# Altium schematic symbol library yu0316-NSC_LDO.SchLib: 2590 symbols (part 29 of 64)
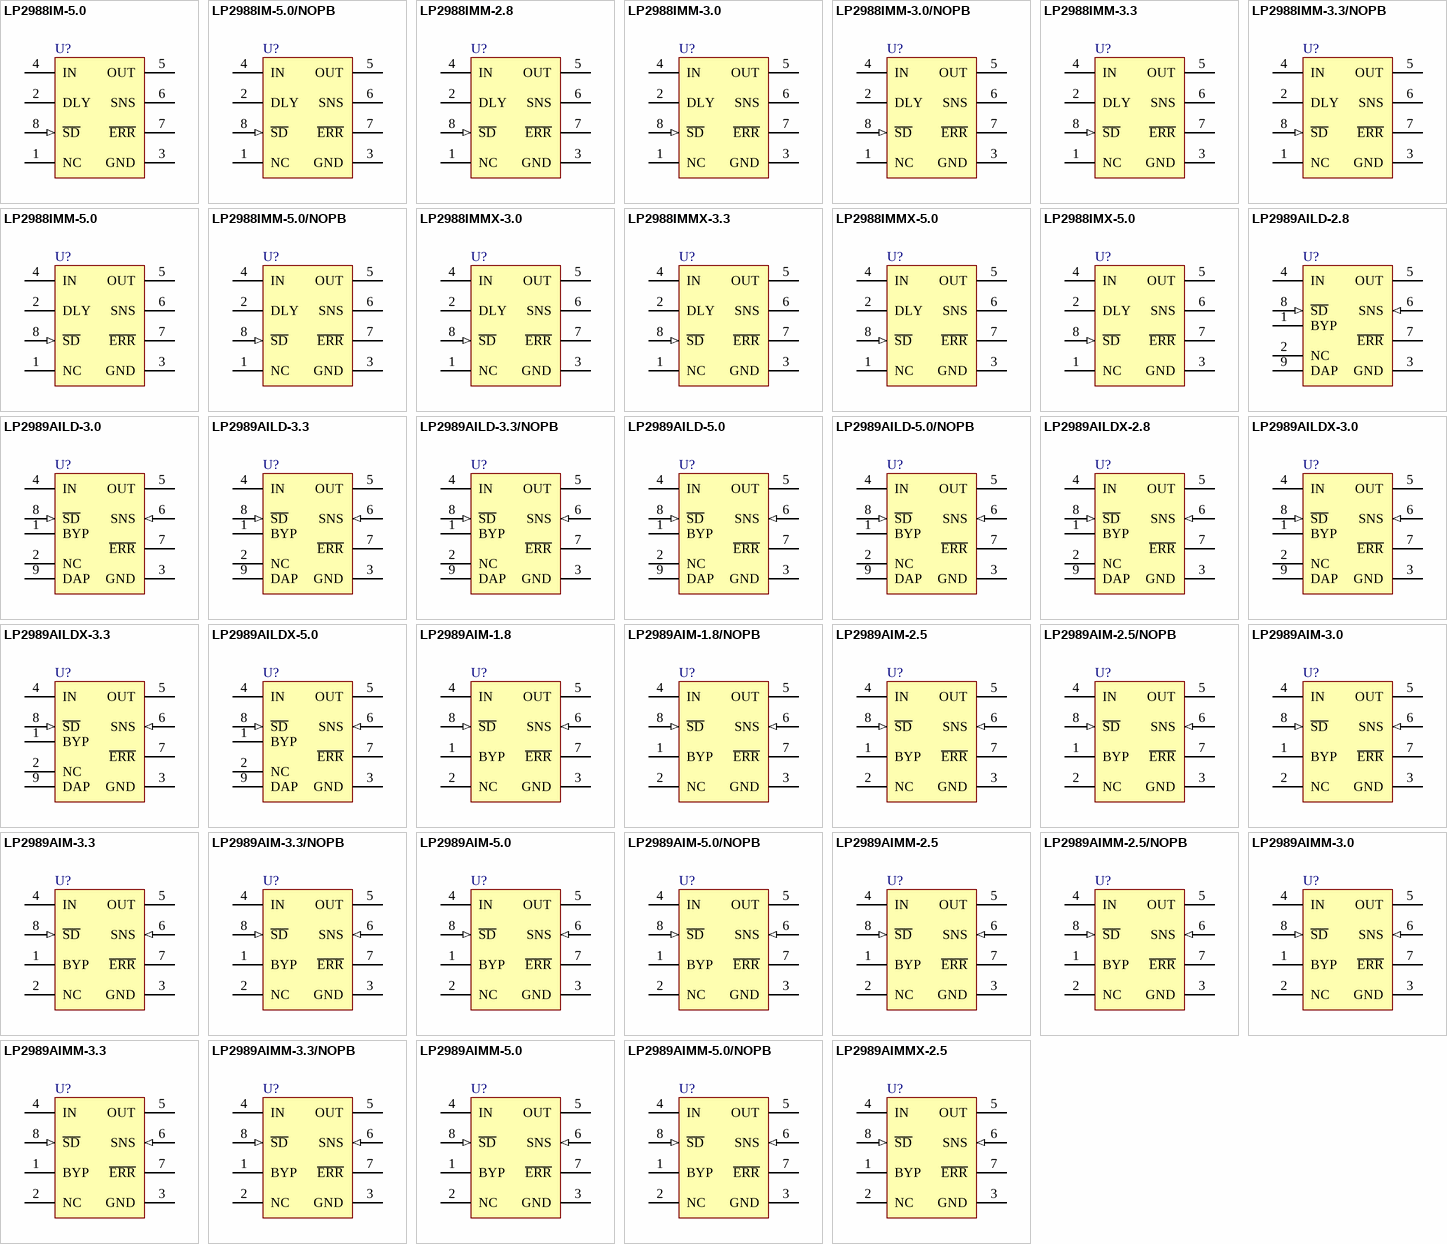
[diagram p93: symbols LP2988IM-5.0 to LP2989AIMMX-2.5]

## LP2989AILD-3.0
designator U?
Micropower/Low Noise, 500 mA Ultra Low-Dropout Regulator, 8-pin LLP; PartNumber: LP2989AILD-3.0; Manufacturer: National Semiconductor; PackageTopMarking: NS*UZXYTT*L01HA; PowerWise: N; CompType: LDO IC; Published: 4-Dec-2008; DatasheetVersion: Feb-2005; PackageVersion: revB, Jun-2003; PackageReference: LDC08A; Publisher: Altium Limited; PackageDescription: LLP, Plastic, Dual, 4 x 4 x 0.75mm Body, 8 Lead, 0.8mm Pitch; RoHS: N; PinCount: 8; ComponentLink1Description: LP2989 Datasheet; ComponentLink1URL: http://www.national.com/ds/LP/LP2989.pdf; ComponentLink2Description: LP2989 Web Page; ComponentLink2URL: http://www.national.com/pf/LP/LP2989.html; ComponentLink3Description: LDC08A Package Page; ComponentLink3URL: http://www.national.com/packaging/folders/ldc08a.html
footprint LDC08A (PSON, 8-Leads, Body 4x4mm, Pitch 0.8mm, NSC Recommended)
pins: 1 BYP, 2 NC, 3 GND (power), 4 IN (power), 5 OUT (power), 6 SNS (in), 7 ~{ERR} (oc), 8 ~{SD} (in), 9 DAP (power)

## LP2989AILD-3.3
designator U?
Micropower/Low Noise, 500 mA Ultra Low-Dropout Regulator, 8-pin LLP; PartNumber: LP2989AILD-3.3; Manufacturer: National Semiconductor; PackageTopMarking: NS*UZXYTT*L01JA; PowerWise: N; CompType: LDO IC; Published: 4-Dec-2008; DatasheetVersion: Feb-2005; PackageVersion: revB, Jun-2003; PackageReference: LDC08A; Publisher: Altium Limited; PackageDescription: LLP, Plastic, Dual, 4 x 4 x 0.75mm Body, 8 Lead, 0.8mm Pitch; RoHS: N; PinCount: 8; ComponentLink1Description: LP2989 Datasheet; ComponentLink1URL: http://www.national.com/ds/LP/LP2989.pdf; ComponentLink2Description: LP2989 Web Page; ComponentLink2URL: http://www.national.com/pf/LP/LP2989.html; ComponentLink3Description: LDC08A Package Page; ComponentLink3URL: http://www.national.com/packaging/folders/ldc08a.html
footprint LDC08A (PSON, 8-Leads, Body 4x4mm, Pitch 0.8mm, NSC Recommended)
pins: 1 BYP, 2 NC, 3 GND (power), 4 IN (power), 5 OUT (power), 6 SNS (in), 7 ~{ERR} (oc), 8 ~{SD} (in), 9 DAP (power)

## LP2989AILD-3.3/NOPB
designator U?
Micropower/Low Noise, 500 mA Ultra Low-Dropout Regulator, 8-pin LLP, Pb-Free; PartNumber: LP2989AILD-3.3/NOPB; Manufacturer: National Semiconductor; PackageTopMarking: NS*UZXYTT*L01JA; PowerWise: N; CompType: LDO IC; Published: 1-Mar-2010; DatasheetVersion: Feb-2005; PackageVersion: revB, Jun-2003; PackageReference: LDC08A; Publisher: Altium Limited; PackageDescription: LLP, Plastic, Dual, 4 x 4 x 0.75mm Body, 8 Lead, 0.8mm Pitch; Supplier 1: Digi-Key; Supplier Part Number 1: LP2989AILD-3.3TR-ND; Supplier 2: Digi-Key; Supplier Part Number 2: LP2989AILD-3.3CT-ND; Supplier 3: Digi-Key; Supplier Part Number 3: LP2989AILD-3.3DKR-ND; Supplier 4: Farnell; Supplier Part Number 4: 1685519; RoHS: Y; PinCount: 8; ComponentLink1Description: LP2989 Datasheet; ComponentLink1URL: http://www.national.com/ds/LP/LP2989.pdf; ComponentLink2Description: LP2989 Web Page; ComponentLink2URL: http://www.national.com/pf/LP/LP2989.html; ComponentLink3Description: LDC08A Package Page; ComponentLink3URL: http://www.national.com/packaging/folders/ldc08a.html
footprint LDC08A (PSON, 8-Leads, Body 4x4mm, Pitch 0.8mm, NSC Recommended)
pins: 1 BYP, 2 NC, 3 GND (power), 4 IN (power), 5 OUT (power), 6 SNS (in), 7 ~{ERR} (oc), 8 ~{SD} (in), 9 DAP (power)

## LP2989AILD-5.0
designator U?
Micropower/Low Noise, 500 mA Ultra Low-Dropout Regulator, 8-pin LLP; PartNumber: LP2989AILD-5.0; Manufacturer: National Semiconductor; PackageTopMarking: NS*UZXYTT*L01KA; PowerWise: N; CompType: LDO IC; Published: 4-Dec-2008; DatasheetVersion: Feb-2005; PackageVersion: revB, Jun-2003; PackageReference: LDC08A; Publisher: Altium Limited; PackageDescription: LLP, Plastic, Dual, 4 x 4 x 0.75mm Body, 8 Lead, 0.8mm Pitch; RoHS: N; PinCount: 8; ComponentLink1Description: LP2989 Datasheet; ComponentLink1URL: http://www.national.com/ds/LP/LP2989.pdf; ComponentLink2Description: LP2989 Web Page; ComponentLink2URL: http://www.national.com/pf/LP/LP2989.html; ComponentLink3Description: LDC08A Package Page; ComponentLink3URL: http://www.national.com/packaging/folders/ldc08a.html
footprint LDC08A (PSON, 8-Leads, Body 4x4mm, Pitch 0.8mm, NSC Recommended)
pins: 1 BYP, 2 NC, 3 GND (power), 4 IN (power), 5 OUT (power), 6 SNS (in), 7 ~{ERR} (oc), 8 ~{SD} (in), 9 DAP (power)

## LP2989AILD-5.0/NOPB
designator U?
Micropower/Low Noise, 500 mA Ultra Low-Dropout Regulator, 8-pin LLP, Pb-Free; PartNumber: LP2989AILD-5.0/NOPB; Manufacturer: National Semiconductor; PackageTopMarking: NS*UZXYTT*L01KA; PowerWise: N; CompType: LDO IC; Published: 1-Mar-2010; DatasheetVersion: Feb-2005; PackageVersion: revB, Jun-2003; PackageReference: LDC08A; Publisher: Altium Limited; PackageDescription: LLP, Plastic, Dual, 4 x 4 x 0.75mm Body, 8 Lead, 0.8mm Pitch; Supplier 1: Digi-Key; Supplier Part Number 1: LP2989AILD-5.0TR-ND; Supplier 2: Digi-Key; Supplier Part Number 2: LP2989AILD-5.0CT-ND; Supplier 3: Digi-Key; Supplier Part Number 3: LP2989AILD-5.0DKR-ND; RoHS: Y; PinCount: 8; ComponentLink1Description: LP2989 Datasheet; ComponentLink1URL: http://www.national.com/ds/LP/LP2989.pdf; ComponentLink2Description: LP2989 Web Page; ComponentLink2URL: http://www.national.com/pf/LP/LP2989.html; ComponentLink3Description: LDC08A Package Page; ComponentLink3URL: http://www.national.com/packaging/folders/ldc08a.html
footprint LDC08A (PSON, 8-Leads, Body 4x4mm, Pitch 0.8mm, NSC Recommended)
pins: 1 BYP, 2 NC, 3 GND (power), 4 IN (power), 5 OUT (power), 6 SNS (in), 7 ~{ERR} (oc), 8 ~{SD} (in), 9 DAP (power)

## LP2989AILDX-2.8
designator U?
Micropower/Low Noise, 500 mA Ultra Low-Dropout Regulator, 8-pin LLP; PartNumber: LP2989AILDX-2.8; Manufacturer: National Semiconductor; PackageTopMarking: NS*UZXYTT*L000A; PowerWise: N; CompType: LDO IC; Published: 1-Mar-2010; DatasheetVersion: Feb-2005; PackageVersion: revB, Jun-2003; PackageReference: LDC08A; Publisher: Altium Limited; PackageDescription: LLP, Plastic, Dual, 4 x 4 x 0.75mm Body, 8 Lead, 0.8mm Pitch; RoHS: N; PinCount: 8; ComponentLink1Description: LP2989 Datasheet; ComponentLink1URL: http://www.national.com/ds/LP/LP2989.pdf; ComponentLink2Description: LP2989 Web Page; ComponentLink2URL: http://www.national.com/pf/LP/LP2989.html; ComponentLink3Description: LDC08A Package Page; ComponentLink3URL: http://www.national.com/packaging/folders/ldc08a.html
footprint LDC08A (PSON, 8-Leads, Body 4x4mm, Pitch 0.8mm, NSC Recommended)
pins: 1 BYP, 2 NC, 3 GND (power), 4 IN (power), 5 OUT (power), 6 SNS (in), 7 ~{ERR} (oc), 8 ~{SD} (in), 9 DAP (power)

## LP2989AILDX-3.0
designator U?
Micropower/Low Noise, 500 mA Ultra Low-Dropout Regulator, 8-pin LLP; PartNumber: LP2989AILDX-3.0; Manufacturer: National Semiconductor; PackageTopMarking: NS*UZXYTT*L01HA; PowerWise: N; CompType: LDO IC; Published: 1-Mar-2010; DatasheetVersion: Feb-2005; PackageVersion: revB, Jun-2003; PackageReference: LDC08A; Publisher: Altium Limited; PackageDescription: LLP, Plastic, Dual, 4 x 4 x 0.75mm Body, 8 Lead, 0.8mm Pitch; Supplier 1: Digi-Key; Supplier Part Number 1: LP2989AILDX-3.0-ND; RoHS: N; PinCount: 8; ComponentLink1Description: LP2989 Datasheet; ComponentLink1URL: http://www.national.com/ds/LP/LP2989.pdf; ComponentLink2Description: LP2989 Web Page; ComponentLink2URL: http://www.national.com/pf/LP/LP2989.html; ComponentLink3Description: LDC08A Package Page; ComponentLink3URL: http://www.national.com/packaging/folders/ldc08a.html
footprint LDC08A (PSON, 8-Leads, Body 4x4mm, Pitch 0.8mm, NSC Recommended)
pins: 1 BYP, 2 NC, 3 GND (power), 4 IN (power), 5 OUT (power), 6 SNS (in), 7 ~{ERR} (oc), 8 ~{SD} (in), 9 DAP (power)

## LP2989AILDX-3.3
designator U?
Micropower/Low Noise, 500 mA Ultra Low-Dropout Regulator, 8-pin LLP; PartNumber: LP2989AILDX-3.3; Manufacturer: National Semiconductor; PackageTopMarking: NS*UZXYTT*L01JA; PowerWise: N; CompType: LDO IC; Published: 1-Mar-2010; DatasheetVersion: Feb-2005; PackageVersion: revB, Jun-2003; PackageReference: LDC08A; Publisher: Altium Limited; PackageDescription: LLP, Plastic, Dual, 4 x 4 x 0.75mm Body, 8 Lead, 0.8mm Pitch; RoHS: N; PinCount: 8; ComponentLink1Description: LP2989 Datasheet; ComponentLink1URL: http://www.national.com/ds/LP/LP2989.pdf; ComponentLink2Description: LP2989 Web Page; ComponentLink2URL: http://www.national.com/pf/LP/LP2989.html; ComponentLink3Description: LDC08A Package Page; ComponentLink3URL: http://www.national.com/packaging/folders/ldc08a.html
footprint LDC08A (PSON, 8-Leads, Body 4x4mm, Pitch 0.8mm, NSC Recommended)
pins: 1 BYP, 2 NC, 3 GND (power), 4 IN (power), 5 OUT (power), 6 SNS (in), 7 ~{ERR} (oc), 8 ~{SD} (in), 9 DAP (power)

## LP2989AILDX-5.0
designator U?
Micropower/Low Noise, 500 mA Ultra Low-Dropout Regulator, 8-pin LLP; PartNumber: LP2989AILDX-5.0; Manufacturer: National Semiconductor; PackageTopMarking: NS*UZXYTT*L01KA; PowerWise: N; CompType: LDO IC; Published: 1-Mar-2010; DatasheetVersion: Feb-2005; PackageVersion: revB, Jun-2003; PackageReference: LDC08A; Publisher: Altium Limited; PackageDescription: LLP, Plastic, Dual, 4 x 4 x 0.75mm Body, 8 Lead, 0.8mm Pitch; Supplier 1: Digi-Key; Supplier Part Number 1: LP2989AILDX-5.0-ND; RoHS: N; PinCount: 8; ComponentLink1Description: LP2989 Datasheet; ComponentLink1URL: http://www.national.com/ds/LP/LP2989.pdf; ComponentLink2Description: LP2989 Web Page; ComponentLink2URL: http://www.national.com/pf/LP/LP2989.html; ComponentLink3Description: LDC08A Package Page; ComponentLink3URL: http://www.national.com/packaging/folders/ldc08a.html
footprint LDC08A (PSON, 8-Leads, Body 4x4mm, Pitch 0.8mm, NSC Recommended)
pins: 1 BYP, 2 NC, 3 GND (power), 4 IN (power), 5 OUT (power), 6 SNS (in), 7 ~{ERR} (oc), 8 ~{SD} (in), 9 DAP (power)

## LP2989AIM-1.8
designator U?
Micropower/Low Noise, 500 mA Ultra Low-Dropout Regulator, 8-pin Narrow SOIC; PartNumber: LP2989AIM-1.8; Manufacturer: National Semiconductor; PackageTopMarking: NSZXTT*2989A*IM1.8; PowerWise: N; CompType: LDO IC; Published: 4-Dec-2008; DatasheetVersion: Feb-2005; PackageVersion: revM, May-2009; PackageReference: M08A; Publisher: Altium Limited; PackageDescription: SOIC Narrow, 4.9 x 3.9 x 1.45mm, 8 Lead, 1.27mm Pitch; RoHS: N; PinCount: 8; Code_JEDEC: MS-012-AA; Code_IPC: SOIC127P600-8; ComponentLink1Description: LP2989 Datasheet; ComponentLink1URL: http://www.national.com/ds/LP/LP2989LV.pdf; ComponentLink2Description: LP2989 Web Page; ComponentLink2URL: http://www.national.com/pf/LP/LP2989.html; ComponentLink3Description: M08A Package Page; ComponentLink3URL: http://www.national.com/packaging/folders/m08a.html
footprint M08A_N (SOIC, 8-Leads, Body 4.9x3.9mm, Pitch 1.27mm, IPC Medium Density)
footprint M08A_L (SOIC, 8-Leads, Body 4.9x3.9mm, Pitch 1.27mm, IPC High Density)
footprint M08A_M (SOIC, 8-Leads, Body 4.9x3.9mm, Pitch 1.27mm, IPC Low Density)
pins: 1 BYP, 2 NC, 3 GND (power), 4 IN (power), 5 OUT (power), 6 SNS (in), 7 ~{ERR} (oc), 8 ~{SD} (in)

## LP2989AIM-1.8/NOPB
designator U?
Micropower 500 mA Low Noise Low-Dropout Regulator for Applications with Output Voltages < 2V, 8-pin Narrow SOIC, Pb-Free; PartNumber: LP2989AIM-1.8/NOPB; Manufacturer: National Semiconductor; PackageTopMarking: NSZXTT*2989A*IM1.8; PowerWise: N; CompType: LDO IC; Published: 1-Mar-2010; DatasheetVersion: Feb-2005; PackageVersion: revM, May-2009; PackageReference: M08A; Publisher: Altium Limited; PackageDescription: SOIC Narrow, 4.9 x 3.9 x 1.45mm, 8 Lead, 1.27mm Pitch; Supplier 1: Digi-Key; Supplier Part Number 1: LP2989AIM-1.8-ND; Supplier 2: Farnell; Supplier Part Number 2: 1694561; RoHS: Y; PinCount: 8; Code_JEDEC: MS-012-AA; Code_IPC: SOIC127P600-8; ComponentLink1Description: LP2989 Datasheet; ComponentLink1URL: http://www.national.com/ds/LP/LP2989LV.pdf; ComponentLink2Description: LP2989 Web Page; ComponentLink2URL: http://www.national.com/pf/LP/LP2989.html; ComponentLink3Description: M08A Package Page; ComponentLink3URL: http://www.national.com/packaging/folders/m08a.html
footprint M08A_N (SOIC, 8-Leads, Body 4.9x3.9mm, Pitch 1.27mm, IPC Medium Density)
footprint M08A_L (SOIC, 8-Leads, Body 4.9x3.9mm, Pitch 1.27mm, IPC High Density)
footprint M08A_M (SOIC, 8-Leads, Body 4.9x3.9mm, Pitch 1.27mm, IPC Low Density)
pins: 1 BYP, 2 NC, 3 GND (power), 4 IN (power), 5 OUT (power), 6 SNS (in), 7 ~{ERR} (oc), 8 ~{SD} (in)

## LP2989AIM-2.5
designator U?
Micropower/Low Noise, 500 mA Ultra Low-Dropout Regulator, 8-pin Narrow SOIC; PartNumber: LP2989AIM-2.5; Manufacturer: National Semiconductor; PackageTopMarking: NSZXTT*2989A*IM2.5; PowerWise: N; CompType: LDO IC; Published: 4-Dec-2008; DatasheetVersion: Feb-2005; PackageVersion: revM, May-2009; PackageReference: M08A; Publisher: Altium Limited; PackageDescription: SOIC Narrow, 4.9 x 3.9 x 1.45mm, 8 Lead, 1.27mm Pitch; RoHS: N; PinCount: 8; Code_JEDEC: MS-012-AA; Code_IPC: SOIC127P600-8; ComponentLink1Description: LP2989 Datasheet; ComponentLink1URL: http://www.national.com/ds/LP/LP2989.pdf; ComponentLink2Description: LP2989 Web Page; ComponentLink2URL: http://www.national.com/pf/LP/LP2989.html; ComponentLink3Description: M08A Package Page; ComponentLink3URL: http://www.national.com/packaging/folders/m08a.html
footprint M08A_N (SOIC, 8-Leads, Body 4.9x3.9mm, Pitch 1.27mm, IPC Medium Density)
footprint M08A_L (SOIC, 8-Leads, Body 4.9x3.9mm, Pitch 1.27mm, IPC High Density)
footprint M08A_M (SOIC, 8-Leads, Body 4.9x3.9mm, Pitch 1.27mm, IPC Low Density)
pins: 1 BYP, 2 NC, 3 GND (power), 4 IN (power), 5 OUT (power), 6 SNS (in), 7 ~{ERR} (oc), 8 ~{SD} (in)

## LP2989AIM-2.5/NOPB
designator U?
Micropower/Low Noise, 500 mA Ultra Low-Dropout Regulator, 8-pin Narrow SOIC, Pb-Free; PartNumber: LP2989AIM-2.5/NOPB; Manufacturer: National Semiconductor; PackageTopMarking: NSZXTT*2989A*IM2.5; PowerWise: N; CompType: LDO IC; Published: 1-Mar-2010; DatasheetVersion: Feb-2005; PackageVersion: revM, May-2009; PackageReference: M08A; Publisher: Altium Limited; PackageDescription: SOIC Narrow, 4.9 x 3.9 x 1.45mm, 8 Lead, 1.27mm Pitch; Supplier 1: Digi-Key; Supplier Part Number 1: LP2989AIM-2.5-ND; Supplier 2: Farnell; Supplier Part Number 2: 1246844; RoHS: Y; PinCount: 8; Code_JEDEC: MS-012-AA; Code_IPC: SOIC127P600-8; ComponentLink1Description: LP2989 Datasheet; ComponentLink1URL: http://www.national.com/ds/LP/LP2989.pdf; ComponentLink2Description: LP2989 Web Page; ComponentLink2URL: http://www.national.com/pf/LP/LP2989.html; ComponentLink3Description: M08A Package Page; ComponentLink3URL: http://www.national.com/packaging/folders/m08a.html
footprint M08A_N (SOIC, 8-Leads, Body 4.9x3.9mm, Pitch 1.27mm, IPC Medium Density)
footprint M08A_L (SOIC, 8-Leads, Body 4.9x3.9mm, Pitch 1.27mm, IPC High Density)
footprint M08A_M (SOIC, 8-Leads, Body 4.9x3.9mm, Pitch 1.27mm, IPC Low Density)
pins: 1 BYP, 2 NC, 3 GND (power), 4 IN (power), 5 OUT (power), 6 SNS (in), 7 ~{ERR} (oc), 8 ~{SD} (in)

## LP2989AIM-3.0
designator U?
Micropower/Low Noise, 500 mA Ultra Low-Dropout Regulator, 8-pin Narrow SOIC; PartNumber: LP2989AIM-3.0; Manufacturer: National Semiconductor; PackageTopMarking: NSZXTT*2989A*IM3.0; PowerWise: N; CompType: LDO IC; Published: 4-Dec-2008; DatasheetVersion: Feb-2005; PackageVersion: revM, May-2009; PackageReference: M08A; Publisher: Altium Limited; PackageDescription: SOIC Narrow, 4.9 x 3.9 x 1.45mm, 8 Lead, 1.27mm Pitch; RoHS: N; PinCount: 8; Code_JEDEC: MS-012-AA; Code_IPC: SOIC127P600-8; ComponentLink1Description: LP2989 Datasheet; ComponentLink1URL: http://www.national.com/ds/LP/LP2989.pdf; ComponentLink2Description: LP2989 Web Page; ComponentLink2URL: http://www.national.com/pf/LP/LP2989.html; ComponentLink3Description: M08A Package Page; ComponentLink3URL: http://www.national.com/packaging/folders/m08a.html
footprint M08A_N (SOIC, 8-Leads, Body 4.9x3.9mm, Pitch 1.27mm, IPC Medium Density)
footprint M08A_L (SOIC, 8-Leads, Body 4.9x3.9mm, Pitch 1.27mm, IPC High Density)
footprint M08A_M (SOIC, 8-Leads, Body 4.9x3.9mm, Pitch 1.27mm, IPC Low Density)
pins: 1 BYP, 2 NC, 3 GND (power), 4 IN (power), 5 OUT (power), 6 SNS (in), 7 ~{ERR} (oc), 8 ~{SD} (in)

## LP2989AIM-3.3
designator U?
Micropower/Low Noise, 500 mA Ultra Low-Dropout Regulator, 8-pin Narrow SOIC; PartNumber: LP2989AIM-3.3; Manufacturer: National Semiconductor; PackageTopMarking: NSZXTT*2989A*IM3.3; PowerWise: N; CompType: LDO IC; Published: 4-Dec-2008; DatasheetVersion: Feb-2005; PackageVersion: revM, May-2009; PackageReference: M08A; Publisher: Altium Limited; PackageDescription: SOIC Narrow, 4.9 x 3.9 x 1.45mm, 8 Lead, 1.27mm Pitch; RoHS: N; PinCount: 8; Code_JEDEC: MS-012-AA; Code_IPC: SOIC127P600-8; ComponentLink1Description: LP2989 Datasheet; ComponentLink1URL: http://www.national.com/ds/LP/LP2989.pdf; ComponentLink2Description: LP2989 Web Page; ComponentLink2URL: http://www.national.com/pf/LP/LP2989.html; ComponentLink3Description: M08A Package Page; ComponentLink3URL: http://www.national.com/packaging/folders/m08a.html
footprint M08A_N (SOIC, 8-Leads, Body 4.9x3.9mm, Pitch 1.27mm, IPC Medium Density)
footprint M08A_L (SOIC, 8-Leads, Body 4.9x3.9mm, Pitch 1.27mm, IPC High Density)
footprint M08A_M (SOIC, 8-Leads, Body 4.9x3.9mm, Pitch 1.27mm, IPC Low Density)
pins: 1 BYP, 2 NC, 3 GND (power), 4 IN (power), 5 OUT (power), 6 SNS (in), 7 ~{ERR} (oc), 8 ~{SD} (in)

## LP2989AIM-3.3/NOPB
designator U?
Micropower/Low Noise, 500 mA Ultra Low-Dropout Regulator, 8-pin Narrow SOIC, Pb-Free; PartNumber: LP2989AIM-3.3/NOPB; Manufacturer: National Semiconductor; PackageTopMarking: NSZXTT*2989A*IM3.3; PowerWise: N; CompType: LDO IC; Published: 1-Mar-2010; DatasheetVersion: Feb-2005; PackageVersion: revM, May-2009; PackageReference: M08A; Publisher: Altium Limited; PackageDescription: SOIC Narrow, 4.9 x 3.9 x 1.45mm, 8 Lead, 1.27mm Pitch; Supplier 1: Digi-Key; Supplier Part Number 1: LP2989AIM-3.3-ND; Supplier 2: Farnell; Supplier Part Number 2: 1685686; RoHS: Y; PinCount: 8; Code_JEDEC: MS-012-AA; Code_IPC: SOIC127P600-8; ComponentLink1Description: LP2989 Datasheet; ComponentLink1URL: http://www.national.com/ds/LP/LP2989.pdf; ComponentLink2Description: LP2989 Web Page; ComponentLink2URL: http://www.national.com/pf/LP/LP2989.html; ComponentLink3Description: M08A Package Page; ComponentLink3URL: http://www.national.com/packaging/folders/m08a.html
footprint M08A_N (SOIC, 8-Leads, Body 4.9x3.9mm, Pitch 1.27mm, IPC Medium Density)
footprint M08A_L (SOIC, 8-Leads, Body 4.9x3.9mm, Pitch 1.27mm, IPC High Density)
footprint M08A_M (SOIC, 8-Leads, Body 4.9x3.9mm, Pitch 1.27mm, IPC Low Density)
pins: 1 BYP, 2 NC, 3 GND (power), 4 IN (power), 5 OUT (power), 6 SNS (in), 7 ~{ERR} (oc), 8 ~{SD} (in)

## LP2989AIM-5.0
designator U?
Micropower/Low Noise, 500 mA Ultra Low-Dropout Regulator, 8-pin Narrow SOIC; PartNumber: LP2989AIM-5.0; Manufacturer: National Semiconductor; PackageTopMarking: NSZXTT*2989A*IM5.0; PowerWise: N; CompType: LDO IC; Published: 4-Dec-2008; DatasheetVersion: Feb-2005; PackageVersion: revM, May-2009; PackageReference: M08A; Publisher: Altium Limited; PackageDescription: SOIC Narrow, 4.9 x 3.9 x 1.45mm, 8 Lead, 1.27mm Pitch; Supplier 1: Farnell; Supplier Part Number 1: 7614664; RoHS: N; PinCount: 8; Code_JEDEC: MS-012-AA; Code_IPC: SOIC127P600-8; ComponentLink1Description: LP2989 Datasheet; ComponentLink1URL: http://www.national.com/ds/LP/LP2989.pdf; ComponentLink2Description: LP2989 Web Page; ComponentLink2URL: http://www.national.com/pf/LP/LP2989.html; ComponentLink3Description: M08A Package Page; ComponentLink3URL: http://www.national.com/packaging/folders/m08a.html
footprint M08A_N (SOIC, 8-Leads, Body 4.9x3.9mm, Pitch 1.27mm, IPC Medium Density)
footprint M08A_L (SOIC, 8-Leads, Body 4.9x3.9mm, Pitch 1.27mm, IPC High Density)
footprint M08A_M (SOIC, 8-Leads, Body 4.9x3.9mm, Pitch 1.27mm, IPC Low Density)
pins: 1 BYP, 2 NC, 3 GND (power), 4 IN (power), 5 OUT (power), 6 SNS (in), 7 ~{ERR} (oc), 8 ~{SD} (in)

## LP2989AIM-5.0/NOPB
designator U?
Micropower/Low Noise, 500 mA Ultra Low-Dropout Regulator, 8-pin Narrow SOIC, Pb-Free; PartNumber: LP2989AIM-5.0/NOPB; Manufacturer: National Semiconductor; PackageTopMarking: NSZXTT*2989A*IM5.0; PowerWise: N; CompType: LDO IC; Published: 1-Mar-2010; DatasheetVersion: Feb-2005; PackageVersion: revM, May-2009; PackageReference: M08A; Publisher: Altium Limited; PackageDescription: SOIC Narrow, 4.9 x 3.9 x 1.45mm, 8 Lead, 1.27mm Pitch; Supplier 1: Digi-Key; Supplier Part Number 1: LP2989AIM-5.0-ND; RoHS: Y; PinCount: 8; Code_JEDEC: MS-012-AA; Code_IPC: SOIC127P600-8; ComponentLink1Description: LP2989 Datasheet; ComponentLink1URL: http://www.national.com/ds/LP/LP2989.pdf; ComponentLink2Description: LP2989 Web Page; ComponentLink2URL: http://www.national.com/pf/LP/LP2989.html; ComponentLink3Description: M08A Package Page; ComponentLink3URL: http://www.national.com/packaging/folders/m08a.html
footprint M08A_N (SOIC, 8-Leads, Body 4.9x3.9mm, Pitch 1.27mm, IPC Medium Density)
footprint M08A_L (SOIC, 8-Leads, Body 4.9x3.9mm, Pitch 1.27mm, IPC High Density)
footprint M08A_M (SOIC, 8-Leads, Body 4.9x3.9mm, Pitch 1.27mm, IPC Low Density)
pins: 1 BYP, 2 NC, 3 GND (power), 4 IN (power), 5 OUT (power), 6 SNS (in), 7 ~{ERR} (oc), 8 ~{SD} (in)

## LP2989AIMM-2.5
designator U?
Micropower/Low Noise, 500 mA Ultra Low-Dropout Regulator, 8-pin Mini SOIC; PartNumber: LP2989AIMM-2.5; Manufacturer: National Semiconductor; PackageTopMarking: ZXTT*LA0A; PowerWise: N; CompType: LDO IC; Published: 4-Dec-2008; DatasheetVersion: Feb-2005; PackageVersion: revF, Apr-2008; PackageReference: MUA08A; Publisher: Altium Limited; PackageDescription: MINI SOIC, .118 x .118 x .034in, 8 Lead, .0256in Pitch; RoHS: N; PinCount: 8; Code_JEDEC: MO-187-AA; ComponentLink1Description: LP2989 Datasheet; ComponentLink1URL: http://www.national.com/ds/LP/LP2989.pdf; ComponentLink2Description: LP2989 Web Page; ComponentLink2URL: http://www.national.com/pf/LP/LP2989.html; ComponentLink3Description: MUA08A Package Page; ComponentLink3URL: http://www.national.com/packaging/folders/mua08a.html
footprint MUA08A_N (TSOP, 8-Leads, Body 3x3mm, Pitch 0.65mm, IPC Medium Density)
footprint MUA08A_L (TSOP, 8-Leads, Body 3x3mm, Pitch 0.65mm, IPC High Density)
footprint MUA08A_M (TSOP, 8-Leads, Body 3x3mm, Pitch 0.65mm, IPC Low Density)
pins: 1 BYP, 2 NC, 3 GND (power), 4 IN (power), 5 OUT (power), 6 SNS (in), 7 ~{ERR} (oc), 8 ~{SD} (in)

## LP2989AIMM-2.5/NOPB
designator U?
Micropower/Low Noise, 500 mA Ultra Low-Dropout Regulator, 8-pin Mini SOIC, Pb-Free; PartNumber: LP2989AIMM-2.5/NOPB; Manufacturer: National Semiconductor; PackageTopMarking: ZXTT*LA0A; PowerWise: N; CompType: LDO IC; Published: 1-Mar-2010; DatasheetVersion: Feb-2005; PackageVersion: revF, Apr-2008; PackageReference: MUA08A; Publisher: Altium Limited; PackageDescription: MINI SOIC, .118 x .118 x .034in, 8 Lead, .0256in Pitch; Supplier 1: Digi-Key; Supplier Part Number 1: LP2989AIMM-2.5TR-ND; Supplier 2: Digi-Key; Supplier Part Number 2: LP2989AIMM-2.5CT-ND; Supplier 3: Digi-Key; Supplier Part Number 3: LP2989AIMM-2.5DKR-ND; RoHS: Y; PinCount: 8; Code_JEDEC: MO-187-AA; ComponentLink1Description: LP2989 Datasheet; ComponentLink1URL: http://www.national.com/ds/LP/LP2989.pdf; ComponentLink2Description: LP2989 Web Page; ComponentLink2URL: http://www.national.com/pf/LP/LP2989.html; ComponentLink3Description: MUA08A Package Page; ComponentLink3URL: http://www.national.com/packaging/folders/mua08a.html
footprint MUA08A_N (TSOP, 8-Leads, Body 3x3mm, Pitch 0.65mm, IPC Medium Density)
footprint MUA08A_L (TSOP, 8-Leads, Body 3x3mm, Pitch 0.65mm, IPC High Density)
footprint MUA08A_M (TSOP, 8-Leads, Body 3x3mm, Pitch 0.65mm, IPC Low Density)
pins: 1 BYP, 2 NC, 3 GND (power), 4 IN (power), 5 OUT (power), 6 SNS (in), 7 ~{ERR} (oc), 8 ~{SD} (in)

## LP2989AIMM-3.0
designator U?
Micropower/Low Noise, 500 mA Ultra Low-Dropout Regulator, 8-pin Mini SOIC; PartNumber: LP2989AIMM-3.0; Manufacturer: National Semiconductor; PackageTopMarking: ZXTT*LA1A; PowerWise: N; CompType: LDO IC; Published: 4-Dec-2008; DatasheetVersion: Feb-2005; PackageVersion: revF, Apr-2008; PackageReference: MUA08A; Publisher: Altium Limited; PackageDescription: MINI SOIC, .118 x .118 x .034in, 8 Lead, .0256in Pitch; RoHS: N; PinCount: 8; Code_JEDEC: MO-187-AA; ComponentLink1Description: LP2989 Datasheet; ComponentLink1URL: http://www.national.com/ds/LP/LP2989.pdf; ComponentLink2Description: LP2989 Web Page; ComponentLink2URL: http://www.national.com/pf/LP/LP2989.html; ComponentLink3Description: MUA08A Package Page; ComponentLink3URL: http://www.national.com/packaging/folders/mua08a.html
footprint MUA08A_N (TSOP, 8-Leads, Body 3x3mm, Pitch 0.65mm, IPC Medium Density)
footprint MUA08A_L (TSOP, 8-Leads, Body 3x3mm, Pitch 0.65mm, IPC High Density)
footprint MUA08A_M (TSOP, 8-Leads, Body 3x3mm, Pitch 0.65mm, IPC Low Density)
pins: 1 BYP, 2 NC, 3 GND (power), 4 IN (power), 5 OUT (power), 6 SNS (in), 7 ~{ERR} (oc), 8 ~{SD} (in)

## LP2989AIMM-3.3
designator U?
Micropower/Low Noise, 500 mA Ultra Low-Dropout Regulator, 8-pin Mini SOIC; PartNumber: LP2989AIMM-3.3; Manufacturer: National Semiconductor; PackageTopMarking: ZXTT*LA2A; PowerWise: N; CompType: LDO IC; Published: 4-Dec-2008; DatasheetVersion: Feb-2005; PackageVersion: revF, Apr-2008; PackageReference: MUA08A; Publisher: Altium Limited; PackageDescription: MINI SOIC, .118 x .118 x .034in, 8 Lead, .0256in Pitch; RoHS: N; PinCount: 8; Code_JEDEC: MO-187-AA; ComponentLink1Description: LP2989 Datasheet; ComponentLink1URL: http://www.national.com/ds/LP/LP2989.pdf; ComponentLink2Description: LP2989 Web Page; ComponentLink2URL: http://www.national.com/pf/LP/LP2989.html; ComponentLink3Description: MUA08A Package Page; ComponentLink3URL: http://www.national.com/packaging/folders/mua08a.html
footprint MUA08A_N (TSOP, 8-Leads, Body 3x3mm, Pitch 0.65mm, IPC Medium Density)
footprint MUA08A_L (TSOP, 8-Leads, Body 3x3mm, Pitch 0.65mm, IPC High Density)
footprint MUA08A_M (TSOP, 8-Leads, Body 3x3mm, Pitch 0.65mm, IPC Low Density)
pins: 1 BYP, 2 NC, 3 GND (power), 4 IN (power), 5 OUT (power), 6 SNS (in), 7 ~{ERR} (oc), 8 ~{SD} (in)

## LP2989AIMM-3.3/NOPB
designator U?
Micropower/Low Noise, 500 mA Ultra Low-Dropout Regulator, 8-pin Mini SOIC, Pb-Free; PartNumber: LP2989AIMM-3.3/NOPB; Manufacturer: National Semiconductor; PackageTopMarking: ZXTT*LA2A; PowerWise: N; CompType: LDO IC; Published: 1-Mar-2010; DatasheetVersion: Feb-2005; PackageVersion: revF, Apr-2008; PackageReference: MUA08A; Publisher: Altium Limited; PackageDescription: MINI SOIC, .118 x .118 x .034in, 8 Lead, .0256in Pitch; Supplier 1: Digi-Key; Supplier Part Number 1: LP2989AIMM-3.3TR-ND; Supplier 2: Digi-Key; Supplier Part Number 2: LP2989AIMM-3.3CT-ND; Supplier 3: Digi-Key; Supplier Part Number 3: LP2989AIMM-3.3DKR-ND; Supplier 4: Farnell; Supplier Part Number 4: 1685687; RoHS: Y; PinCount: 8; Code_JEDEC: MO-187-AA; ComponentLink1Description: LP2989 Datasheet; ComponentLink1URL: http://www.national.com/ds/LP/LP2989.pdf; ComponentLink2Description: LP2989 Web Page; ComponentLink2URL: http://www.national.com/pf/LP/LP2989.html; ComponentLink3Description: MUA08A Package Page; ComponentLink3URL: http://www.national.com/packaging/folders/mua08a.html
footprint MUA08A_N (TSOP, 8-Leads, Body 3x3mm, Pitch 0.65mm, IPC Medium Density)
footprint MUA08A_L (TSOP, 8-Leads, Body 3x3mm, Pitch 0.65mm, IPC High Density)
footprint MUA08A_M (TSOP, 8-Leads, Body 3x3mm, Pitch 0.65mm, IPC Low Density)
pins: 1 BYP, 2 NC, 3 GND (power), 4 IN (power), 5 OUT (power), 6 SNS (in), 7 ~{ERR} (oc), 8 ~{SD} (in)

## LP2989AIMM-5.0
designator U?
Micropower/Low Noise, 500 mA Ultra Low-Dropout Regulator, 8-pin Mini SOIC; PartNumber: LP2989AIMM-5.0; Manufacturer: National Semiconductor; PackageTopMarking: ZXTT*LA4A; PowerWise: N; CompType: LDO IC; Published: 4-Dec-2008; DatasheetVersion: Feb-2005; PackageVersion: revF, Apr-2008; PackageReference: MUA08A; Publisher: Altium Limited; PackageDescription: MINI SOIC, .118 x .118 x .034in, 8 Lead, .0256in Pitch; RoHS: N; PinCount: 8; Code_JEDEC: MO-187-AA; ComponentLink1Description: LP2989 Datasheet; ComponentLink1URL: http://www.national.com/ds/LP/LP2989.pdf; ComponentLink2Description: LP2989 Web Page; ComponentLink2URL: http://www.national.com/pf/LP/LP2989.html; ComponentLink3Description: MUA08A Package Page; ComponentLink3URL: http://www.national.com/packaging/folders/mua08a.html
footprint MUA08A_N (TSOP, 8-Leads, Body 3x3mm, Pitch 0.65mm, IPC Medium Density)
footprint MUA08A_L (TSOP, 8-Leads, Body 3x3mm, Pitch 0.65mm, IPC High Density)
footprint MUA08A_M (TSOP, 8-Leads, Body 3x3mm, Pitch 0.65mm, IPC Low Density)
pins: 1 BYP, 2 NC, 3 GND (power), 4 IN (power), 5 OUT (power), 6 SNS (in), 7 ~{ERR} (oc), 8 ~{SD} (in)

## LP2989AIMM-5.0/NOPB
designator U?
Micropower/Low Noise, 500 mA Ultra Low-Dropout Regulator, 8-pin Mini SOIC, Pb-Free; PartNumber: LP2989AIMM-5.0/NOPB; Manufacturer: National Semiconductor; PackageTopMarking: ZXTT*LA4A; PowerWise: N; CompType: LDO IC; Published: 1-Mar-2010; DatasheetVersion: Feb-2005; PackageVersion: revF, Apr-2008; PackageReference: MUA08A; Publisher: Altium Limited; PackageDescription: MINI SOIC, .118 x .118 x .034in, 8 Lead, .0256in Pitch; Supplier 1: Digi-Key; Supplier Part Number 1: LP2989AIMM-5.0TR-ND; Supplier 2: Digi-Key; Supplier Part Number 2: LP2989AIMM-5.0CT-ND; Supplier 3: Digi-Key; Supplier Part Number 3: LP2989AIMM-5.0DKR-ND; Supplier 4: Farnell; Supplier Part Number 4: 1685688; RoHS: Y; PinCount: 8; Code_JEDEC: MO-187-AA; ComponentLink1Description: LP2989 Datasheet; ComponentLink1URL: http://www.national.com/ds/LP/LP2989.pdf; ComponentLink2Description: LP2989 Web Page; ComponentLink2URL: http://www.national.com/pf/LP/LP2989.html; ComponentLink3Description: MUA08A Package Page; ComponentLink3URL: http://www.national.com/packaging/folders/mua08a.html
footprint MUA08A_N (TSOP, 8-Leads, Body 3x3mm, Pitch 0.65mm, IPC Medium Density)
footprint MUA08A_L (TSOP, 8-Leads, Body 3x3mm, Pitch 0.65mm, IPC High Density)
footprint MUA08A_M (TSOP, 8-Leads, Body 3x3mm, Pitch 0.65mm, IPC Low Density)
pins: 1 BYP, 2 NC, 3 GND (power), 4 IN (power), 5 OUT (power), 6 SNS (in), 7 ~{ERR} (oc), 8 ~{SD} (in)

## LP2989AIMMX-2.5
designator U?
Micropower/Low Noise, 500 mA Ultra Low-Dropout Regulator, 8-pin Mini SOIC; PartNumber: LP2989AIMMX-2.5; Manufacturer: National Semiconductor; PackageTopMarking: ZXTT*LA0A; PowerWise: N; CompType: LDO IC; Published: 1-Mar-2010; DatasheetVersion: Feb-2005; PackageVersion: revF, Apr-2008; PackageReference: MUA08A; Publisher: Altium Limited; PackageDescription: MINI SOIC, .118 x .118 x .034in, 8 Lead, .0256in Pitch; Supplier 1: Digi-Key; Supplier Part Number 1: LP2989AIMMX-2.5-ND; RoHS: N; PinCount: 8; Code_JEDEC: MO-187-AA; ComponentLink1Description: LP2989 Datasheet; ComponentLink1URL: http://www.national.com/ds/LP/LP2989.pdf; ComponentLink2Description: LP2989 Web Page; ComponentLink2URL: http://www.national.com/pf/LP/LP2989.html; ComponentLink3Description: MUA08A Package Page; ComponentLink3URL: http://www.national.com/packaging/folders/mua08a.html
footprint MUA08A_N (TSOP, 8-Leads, Body 3x3mm, Pitch 0.65mm, IPC Medium Density)
footprint MUA08A_L (TSOP, 8-Leads, Body 3x3mm, Pitch 0.65mm, IPC High Density)
footprint MUA08A_M (TSOP, 8-Leads, Body 3x3mm, Pitch 0.65mm, IPC Low Density)
pins: 1 BYP, 2 NC, 3 GND (power), 4 IN (power), 5 OUT (power), 6 SNS (in), 7 ~{ERR} (oc), 8 ~{SD} (in)

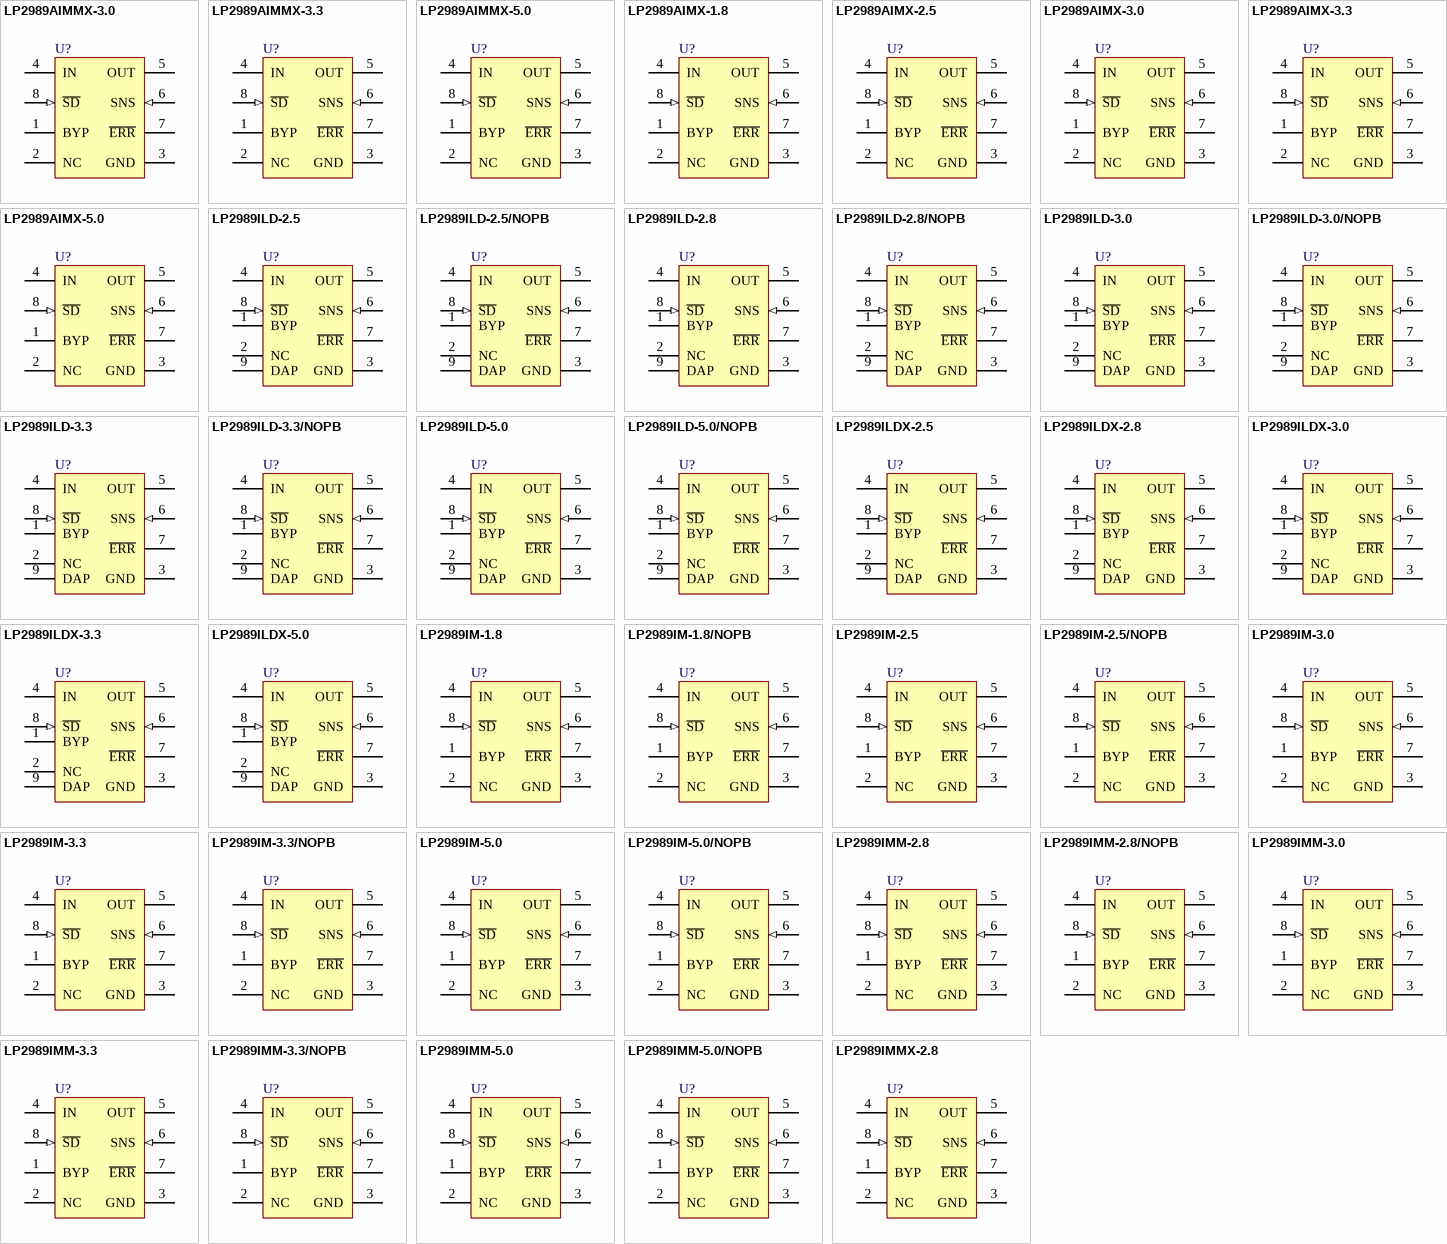
[diagram p30: symbols LP2989AIMMX-3.0 to LP2989IMMX-2.8]

## LP2989AIMMX-3.0
designator U?
Micropower/Low Noise, 500 mA Ultra Low-Dropout Regulator, 8-pin Mini SOIC; PartNumber: LP2989AIMMX-3.0; Manufacturer: National Semiconductor; PackageTopMarking: ZXTT*LA1A; PowerWise: N; CompType: LDO IC; Published: 1-Mar-2010; DatasheetVersion: Feb-2005; PackageVersion: revF, Apr-2008; PackageReference: MUA08A; Publisher: Altium Limited; PackageDescription: MINI SOIC, .118 x .118 x .034in, 8 Lead, .0256in Pitch; Supplier 1: Digi-Key; Supplier Part Number 1: LP2989AIMMX-3.0-ND; RoHS: N; PinCount: 8; Code_JEDEC: MO-187-AA; ComponentLink1Description: LP2989 Datasheet; ComponentLink1URL: http://www.national.com/ds/LP/LP2989.pdf; ComponentLink2Description: LP2989 Web Page; ComponentLink2URL: http://www.national.com/pf/LP/LP2989.html; ComponentLink3Description: MUA08A Package Page; ComponentLink3URL: http://www.national.com/packaging/folders/mua08a.html
footprint MUA08A_N (TSOP, 8-Leads, Body 3x3mm, Pitch 0.65mm, IPC Medium Density)
footprint MUA08A_L (TSOP, 8-Leads, Body 3x3mm, Pitch 0.65mm, IPC High Density)
footprint MUA08A_M (TSOP, 8-Leads, Body 3x3mm, Pitch 0.65mm, IPC Low Density)
pins: 1 BYP, 2 NC, 3 GND (power), 4 IN (power), 5 OUT (power), 6 SNS (in), 7 ~{ERR} (oc), 8 ~{SD} (in)

## LP2989AIMMX-3.3
designator U?
Micropower/Low Noise, 500 mA Ultra Low-Dropout Regulator, 8-pin Mini SOIC; PartNumber: LP2989AIMMX-3.3; Manufacturer: National Semiconductor; PackageTopMarking: ZXTT*LA2A; PowerWise: N; CompType: LDO IC; Published: 1-Mar-2010; DatasheetVersion: Feb-2005; PackageVersion: revF, Apr-2008; PackageReference: MUA08A; Publisher: Altium Limited; PackageDescription: MINI SOIC, .118 x .118 x .034in, 8 Lead, .0256in Pitch; RoHS: N; PinCount: 8; Code_JEDEC: MO-187-AA; ComponentLink1Description: LP2989 Datasheet; ComponentLink1URL: http://www.national.com/ds/LP/LP2989.pdf; ComponentLink2Description: LP2989 Web Page; ComponentLink2URL: http://www.national.com/pf/LP/LP2989.html; ComponentLink3Description: MUA08A Package Page; ComponentLink3URL: http://www.national.com/packaging/folders/mua08a.html
footprint MUA08A_N (TSOP, 8-Leads, Body 3x3mm, Pitch 0.65mm, IPC Medium Density)
footprint MUA08A_L (TSOP, 8-Leads, Body 3x3mm, Pitch 0.65mm, IPC High Density)
footprint MUA08A_M (TSOP, 8-Leads, Body 3x3mm, Pitch 0.65mm, IPC Low Density)
pins: 1 BYP, 2 NC, 3 GND (power), 4 IN (power), 5 OUT (power), 6 SNS (in), 7 ~{ERR} (oc), 8 ~{SD} (in)

## LP2989AIMMX-5.0
designator U?
Micropower/Low Noise, 500 mA Ultra Low-Dropout Regulator, 8-pin Mini SOIC; PartNumber: LP2989AIMMX-5.0; Manufacturer: National Semiconductor; PackageTopMarking: ZXTT*LA4A; PowerWise: N; CompType: LDO IC; Published: 1-Mar-2010; DatasheetVersion: Feb-2005; PackageVersion: revF, Apr-2008; PackageReference: MUA08A; Publisher: Altium Limited; PackageDescription: MINI SOIC, .118 x .118 x .034in, 8 Lead, .0256in Pitch; RoHS: N; PinCount: 8; Code_JEDEC: MO-187-AA; ComponentLink1Description: LP2989 Datasheet; ComponentLink1URL: http://www.national.com/ds/LP/LP2989.pdf; ComponentLink2Description: LP2989 Web Page; ComponentLink2URL: http://www.national.com/pf/LP/LP2989.html; ComponentLink3Description: MUA08A Package Page; ComponentLink3URL: http://www.national.com/packaging/folders/mua08a.html
footprint MUA08A_N (TSOP, 8-Leads, Body 3x3mm, Pitch 0.65mm, IPC Medium Density)
footprint MUA08A_L (TSOP, 8-Leads, Body 3x3mm, Pitch 0.65mm, IPC High Density)
footprint MUA08A_M (TSOP, 8-Leads, Body 3x3mm, Pitch 0.65mm, IPC Low Density)
pins: 1 BYP, 2 NC, 3 GND (power), 4 IN (power), 5 OUT (power), 6 SNS (in), 7 ~{ERR} (oc), 8 ~{SD} (in)

## LP2989AIMX-1.8
designator U?
Micropower 500 mA Low Noise Low-Dropout Regulator for Applications with Output Voltages < 2V, 8-pin Narrow SOIC; PartNumber: LP2989AIMX-1.8; Manufacturer: National Semiconductor; PackageTopMarking: NSZXTT*2989A*IM1.8; PowerWise: N; CompType: LDO IC; Published: 1-Mar-2010; DatasheetVersion: Feb-2005; PackageVersion: revM, May-2009; PackageReference: M08A; Publisher: Altium Limited; PackageDescription: SOIC Narrow, 4.9 x 3.9 x 1.45mm, 8 Lead, 1.27mm Pitch; RoHS: N; PinCount: 8; Code_JEDEC: MS-012-AA; Code_IPC: SOIC127P600-8; ComponentLink1Description: LP2989 Datasheet; ComponentLink1URL: http://www.national.com/ds/LP/LP2989LV.pdf; ComponentLink2Description: LP2989 Web Page; ComponentLink2URL: http://www.national.com/pf/LP/LP2989.html; ComponentLink3Description: M08A Package Page; ComponentLink3URL: http://www.national.com/packaging/folders/m08a.html
footprint M08A_N (SOIC, 8-Leads, Body 4.9x3.9mm, Pitch 1.27mm, IPC Medium Density)
footprint M08A_L (SOIC, 8-Leads, Body 4.9x3.9mm, Pitch 1.27mm, IPC High Density)
footprint M08A_M (SOIC, 8-Leads, Body 4.9x3.9mm, Pitch 1.27mm, IPC Low Density)
pins: 1 BYP, 2 NC, 3 GND (power), 4 IN (power), 5 OUT (power), 6 SNS (in), 7 ~{ERR} (oc), 8 ~{SD} (in)

## LP2989AIMX-2.5
designator U?
Micropower/Low Noise, 500 mA Ultra Low-Dropout Regulator, 8-pin Narrow SOIC; PartNumber: LP2989AIMX-2.5; Manufacturer: National Semiconductor; PackageTopMarking: NSZXTT*2989A*IM2.5; PowerWise: N; CompType: LDO IC; Published: 1-Mar-2010; DatasheetVersion: Feb-2005; PackageVersion: revM, May-2009; PackageReference: M08A; Publisher: Altium Limited; PackageDescription: SOIC Narrow, 4.9 x 3.9 x 1.45mm, 8 Lead, 1.27mm Pitch; RoHS: N; PinCount: 8; Code_JEDEC: MS-012-AA; Code_IPC: SOIC127P600-8; ComponentLink1Description: LP2989 Datasheet; ComponentLink1URL: http://www.national.com/ds/LP/LP2989.pdf; ComponentLink2Description: LP2989 Web Page; ComponentLink2URL: http://www.national.com/pf/LP/LP2989.html; ComponentLink3Description: M08A Package Page; ComponentLink3URL: http://www.national.com/packaging/folders/m08a.html
footprint M08A_N (SOIC, 8-Leads, Body 4.9x3.9mm, Pitch 1.27mm, IPC Medium Density)
footprint M08A_L (SOIC, 8-Leads, Body 4.9x3.9mm, Pitch 1.27mm, IPC High Density)
footprint M08A_M (SOIC, 8-Leads, Body 4.9x3.9mm, Pitch 1.27mm, IPC Low Density)
pins: 1 BYP, 2 NC, 3 GND (power), 4 IN (power), 5 OUT (power), 6 SNS (in), 7 ~{ERR} (oc), 8 ~{SD} (in)

## LP2989AIMX-3.0
designator U?
Micropower/Low Noise, 500 mA Ultra Low-Dropout Regulator, 8-pin Narrow SOIC; PartNumber: LP2989AIMX-3.0; Manufacturer: National Semiconductor; PackageTopMarking: NSZXTT*2989A*IM3.0; PowerWise: N; CompType: LDO IC; Published: 1-Mar-2010; DatasheetVersion: Feb-2005; PackageVersion: revM, May-2009; PackageReference: M08A; Publisher: Altium Limited; PackageDescription: SOIC Narrow, 4.9 x 3.9 x 1.45mm, 8 Lead, 1.27mm Pitch; RoHS: N; PinCount: 8; Code_JEDEC: MS-012-AA; Code_IPC: SOIC127P600-8; ComponentLink1Description: LP2989 Datasheet; ComponentLink1URL: http://www.national.com/ds/LP/LP2989.pdf; ComponentLink2Description: LP2989 Web Page; ComponentLink2URL: http://www.national.com/pf/LP/LP2989.html; ComponentLink3Description: M08A Package Page; ComponentLink3URL: http://www.national.com/packaging/folders/m08a.html
footprint M08A_N (SOIC, 8-Leads, Body 4.9x3.9mm, Pitch 1.27mm, IPC Medium Density)
footprint M08A_L (SOIC, 8-Leads, Body 4.9x3.9mm, Pitch 1.27mm, IPC High Density)
footprint M08A_M (SOIC, 8-Leads, Body 4.9x3.9mm, Pitch 1.27mm, IPC Low Density)
pins: 1 BYP, 2 NC, 3 GND (power), 4 IN (power), 5 OUT (power), 6 SNS (in), 7 ~{ERR} (oc), 8 ~{SD} (in)

## LP2989AIMX-3.3
designator U?
Micropower/Low Noise, 500 mA Ultra Low-Dropout Regulator, 8-pin Narrow SOIC; PartNumber: LP2989AIMX-3.3; Manufacturer: National Semiconductor; PackageTopMarking: NSZXTT*2989A*IM3.3; PowerWise: N; CompType: LDO IC; Published: 1-Mar-2010; DatasheetVersion: Feb-2005; PackageVersion: revM, May-2009; PackageReference: M08A; Publisher: Altium Limited; PackageDescription: SOIC Narrow, 4.9 x 3.9 x 1.45mm, 8 Lead, 1.27mm Pitch; Supplier 1: Digi-Key; Supplier Part Number 1: LP2989AIMX-3.3-ND; RoHS: N; PinCount: 8; Code_JEDEC: MS-012-AA; Code_IPC: SOIC127P600-8; ComponentLink1Description: LP2989 Datasheet; ComponentLink1URL: http://www.national.com/ds/LP/LP2989.pdf; ComponentLink2Description: LP2989 Web Page; ComponentLink2URL: http://www.national.com/pf/LP/LP2989.html; ComponentLink3Description: M08A Package Page; ComponentLink3URL: http://www.national.com/packaging/folders/m08a.html
footprint M08A_N (SOIC, 8-Leads, Body 4.9x3.9mm, Pitch 1.27mm, IPC Medium Density)
footprint M08A_L (SOIC, 8-Leads, Body 4.9x3.9mm, Pitch 1.27mm, IPC High Density)
footprint M08A_M (SOIC, 8-Leads, Body 4.9x3.9mm, Pitch 1.27mm, IPC Low Density)
pins: 1 BYP, 2 NC, 3 GND (power), 4 IN (power), 5 OUT (power), 6 SNS (in), 7 ~{ERR} (oc), 8 ~{SD} (in)

## LP2989AIMX-5.0
designator U?
Micropower/Low Noise, 500 mA Ultra Low-Dropout Regulator, 8-pin Narrow SOIC; PartNumber: LP2989AIMX-5.0; Manufacturer: National Semiconductor; PackageTopMarking: NSZXTT*2989A*IM5.0; PowerWise: N; CompType: LDO IC; Published: 1-Mar-2010; DatasheetVersion: Feb-2005; PackageVersion: revM, May-2009; PackageReference: M08A; Publisher: Altium Limited; PackageDescription: SOIC Narrow, 4.9 x 3.9 x 1.45mm, 8 Lead, 1.27mm Pitch; RoHS: N; PinCount: 8; Code_JEDEC: MS-012-AA; Code_IPC: SOIC127P600-8; ComponentLink1Description: LP2989 Datasheet; ComponentLink1URL: http://www.national.com/ds/LP/LP2989.pdf; ComponentLink2Description: LP2989 Web Page; ComponentLink2URL: http://www.national.com/pf/LP/LP2989.html; ComponentLink3Description: M08A Package Page; ComponentLink3URL: http://www.national.com/packaging/folders/m08a.html
footprint M08A_N (SOIC, 8-Leads, Body 4.9x3.9mm, Pitch 1.27mm, IPC Medium Density)
footprint M08A_L (SOIC, 8-Leads, Body 4.9x3.9mm, Pitch 1.27mm, IPC High Density)
footprint M08A_M (SOIC, 8-Leads, Body 4.9x3.9mm, Pitch 1.27mm, IPC Low Density)
pins: 1 BYP, 2 NC, 3 GND (power), 4 IN (power), 5 OUT (power), 6 SNS (in), 7 ~{ERR} (oc), 8 ~{SD} (in)

## LP2989ILD-2.5
designator U?
Micropower/Low Noise, 500 mA Ultra Low-Dropout Regulator, 8-pin LLP; PartNumber: LP2989ILD-2.5; Manufacturer: National Semiconductor; PackageTopMarking: NS*UZXYTT*L01FA*B; PowerWise: N; CompType: LDO IC; Published: 4-Dec-2008; DatasheetVersion: Feb-2005; PackageVersion: revB, Jun-2003; PackageReference: LDC08A; Publisher: Altium Limited; PackageDescription: LLP, Plastic, Dual, 4 x 4 x 0.75mm Body, 8 Lead, 0.8mm Pitch; Supplier 1: Digi-Key; Supplier Part Number 1: LP2989ILD-2.5TR-ND; Supplier 2: Digi-Key; Supplier Part Number 2: LP2989ILD-2.5CT-ND; Supplier 3: Digi-Key; Supplier Part Number 3: LP2989ILD-2.5DKR-ND; RoHS: N; PinCount: 8; ComponentLink1Description: LP2989 Datasheet; ComponentLink1URL: http://www.national.com/ds/LP/LP2989.pdf; ComponentLink2Description: LP2989 Web Page; ComponentLink2URL: http://www.national.com/pf/LP/LP2989.html; ComponentLink3Description: LDC08A Package Page; ComponentLink3URL: http://www.national.com/packaging/folders/ldc08a.html
footprint LDC08A (PSON, 8-Leads, Body 4x4mm, Pitch 0.8mm, NSC Recommended)
pins: 1 BYP, 2 NC, 3 GND (power), 4 IN (power), 5 OUT (power), 6 SNS (in), 7 ~{ERR} (oc), 8 ~{SD} (in), 9 DAP (power)

## LP2989ILD-2.5/NOPB
designator U?
Micropower/Low Noise, 500 mA Ultra Low-Dropout Regulator, 8-pin LLP, Pb-Free; PartNumber: LP2989ILD-2.5/NOPB; Manufacturer: National Semiconductor; PackageTopMarking: NS*UZXYTT*L01FA*B; PowerWise: N; CompType: LDO IC; Published: 1-Mar-2010; DatasheetVersion: Feb-2005; PackageVersion: revB, Jun-2003; PackageReference: LDC08A; Publisher: Altium Limited; PackageDescription: LLP, Plastic, Dual, 4 x 4 x 0.75mm Body, 8 Lead, 0.8mm Pitch; RoHS: Y; PinCount: 8; ComponentLink1Description: LP2989 Datasheet; ComponentLink1URL: http://www.national.com/ds/LP/LP2989.pdf; ComponentLink2Description: LP2989 Web Page; ComponentLink2URL: http://www.national.com/pf/LP/LP2989.html; ComponentLink3Description: LDC08A Package Page; ComponentLink3URL: http://www.national.com/packaging/folders/ldc08a.html
footprint LDC08A (PSON, 8-Leads, Body 4x4mm, Pitch 0.8mm, NSC Recommended)
pins: 1 BYP, 2 NC, 3 GND (power), 4 IN (power), 5 OUT (power), 6 SNS (in), 7 ~{ERR} (oc), 8 ~{SD} (in), 9 DAP (power)

## LP2989ILD-2.8
designator U?
Micropower/Low Noise, 500 mA Ultra Low-Dropout Regulator, 8-pin LLP; PartNumber: LP2989ILD-2.8; Manufacturer: National Semiconductor; PackageTopMarking: NS*UZXYTT*L000A*B; PowerWise: N; CompType: LDO IC; Published: 4-Dec-2008; DatasheetVersion: Feb-2005; PackageVersion: revB, Jun-2003; PackageReference: LDC08A; Publisher: Altium Limited; PackageDescription: LLP, Plastic, Dual, 4 x 4 x 0.75mm Body, 8 Lead, 0.8mm Pitch; RoHS: N; PinCount: 8; ComponentLink1Description: LP2989 Datasheet; ComponentLink1URL: http://www.national.com/ds/LP/LP2989.pdf; ComponentLink2Description: LP2989 Web Page; ComponentLink2URL: http://www.national.com/pf/LP/LP2989.html; ComponentLink3Description: LDC08A Package Page; ComponentLink3URL: http://www.national.com/packaging/folders/ldc08a.html
footprint LDC08A (PSON, 8-Leads, Body 4x4mm, Pitch 0.8mm, NSC Recommended)
pins: 1 BYP, 2 NC, 3 GND (power), 4 IN (power), 5 OUT (power), 6 SNS (in), 7 ~{ERR} (oc), 8 ~{SD} (in), 9 DAP (power)

## LP2989ILD-2.8/NOPB
designator U?
Micropower/Low Noise, 500 mA Ultra Low-Dropout Regulator, 8-pin LLP, Pb-Free; PartNumber: LP2989ILD-2.8/NOPB; Manufacturer: National Semiconductor; PackageTopMarking: NS*UZXYTT*L000A*B; PowerWise: N; CompType: LDO IC; Published: 1-Mar-2010; DatasheetVersion: Feb-2005; PackageVersion: revB, Jun-2003; PackageReference: LDC08A; Publisher: Altium Limited; PackageDescription: LLP, Plastic, Dual, 4 x 4 x 0.75mm Body, 8 Lead, 0.8mm Pitch; Supplier 1: Digi-Key; Supplier Part Number 1: LP2989ILD-2.8TR-ND; Supplier 2: Digi-Key; Supplier Part Number 2: LP2989ILD-2.8CT-ND; Supplier 3: Digi-Key; Supplier Part Number 3: LP2989ILD-2.8DKR-ND; RoHS: Y; PinCount: 8; ComponentLink1Description: LP2989 Datasheet; ComponentLink1URL: http://www.national.com/ds/LP/LP2989.pdf; ComponentLink2Description: LP2989 Web Page; ComponentLink2URL: http://www.national.com/pf/LP/LP2989.html; ComponentLink3Description: LDC08A Package Page; ComponentLink3URL: http://www.national.com/packaging/folders/ldc08a.html
footprint LDC08A (PSON, 8-Leads, Body 4x4mm, Pitch 0.8mm, NSC Recommended)
pins: 1 BYP, 2 NC, 3 GND (power), 4 IN (power), 5 OUT (power), 6 SNS (in), 7 ~{ERR} (oc), 8 ~{SD} (in), 9 DAP (power)

## LP2989ILD-3.0
designator U?
Micropower/Low Noise, 500 mA Ultra Low-Dropout Regulator, 8-pin LLP; PartNumber: LP2989ILD-3.0; Manufacturer: National Semiconductor; PackageTopMarking: NS*UZXYTT*L01HA*B; PowerWise: N; CompType: LDO IC; Published: 4-Dec-2008; DatasheetVersion: Feb-2005; PackageVersion: revB, Jun-2003; PackageReference: LDC08A; Publisher: Altium Limited; PackageDescription: LLP, Plastic, Dual, 4 x 4 x 0.75mm Body, 8 Lead, 0.8mm Pitch; Supplier 1: Farnell; Supplier Part Number 1: 4801600; RoHS: N; PinCount: 8; ComponentLink1Description: LP2989 Datasheet; ComponentLink1URL: http://www.national.com/ds/LP/LP2989.pdf; ComponentLink2Description: LP2989 Web Page; ComponentLink2URL: http://www.national.com/pf/LP/LP2989.html; ComponentLink3Description: LDC08A Package Page; ComponentLink3URL: http://www.national.com/packaging/folders/ldc08a.html
footprint LDC08A (PSON, 8-Leads, Body 4x4mm, Pitch 0.8mm, NSC Recommended)
pins: 1 BYP, 2 NC, 3 GND (power), 4 IN (power), 5 OUT (power), 6 SNS (in), 7 ~{ERR} (oc), 8 ~{SD} (in), 9 DAP (power)

## LP2989ILD-3.0/NOPB
designator U?
Micropower/Low Noise, 500 mA Ultra Low-Dropout Regulator, 8-pin LLP, Pb-Free; PartNumber: LP2989ILD-3.0/NOPB; Manufacturer: National Semiconductor; PackageTopMarking: NS*UZXYTT*L01HA*B; PowerWise: N; CompType: LDO IC; Published: 1-Mar-2010; DatasheetVersion: Feb-2005; PackageVersion: revB, Jun-2003; PackageReference: LDC08A; Publisher: Altium Limited; PackageDescription: LLP, Plastic, Dual, 4 x 4 x 0.75mm Body, 8 Lead, 0.8mm Pitch; Supplier 1: Digi-Key; Supplier Part Number 1: LP2989ILD-3.0TR-ND; Supplier 2: Digi-Key; Supplier Part Number 2: LP2989ILD-3.0CT-ND; Supplier 3: Digi-Key; Supplier Part Number 3: LP2989ILD-3.0DKR-ND; RoHS: Y; PinCount: 8; ComponentLink1Description: LP2989 Datasheet; ComponentLink1URL: http://www.national.com/ds/LP/LP2989.pdf; ComponentLink2Description: LP2989 Web Page; ComponentLink2URL: http://www.national.com/pf/LP/LP2989.html; ComponentLink3Description: LDC08A Package Page; ComponentLink3URL: http://www.national.com/packaging/folders/ldc08a.html
footprint LDC08A (PSON, 8-Leads, Body 4x4mm, Pitch 0.8mm, NSC Recommended)
pins: 1 BYP, 2 NC, 3 GND (power), 4 IN (power), 5 OUT (power), 6 SNS (in), 7 ~{ERR} (oc), 8 ~{SD} (in), 9 DAP (power)

## LP2989ILD-3.3
designator U?
Micropower/Low Noise, 500 mA Ultra Low-Dropout Regulator, 8-pin LLP; PartNumber: LP2989ILD-3.3; Manufacturer: National Semiconductor; PackageTopMarking: NS*UZXYTT*L01JA*B; PowerWise: N; CompType: LDO IC; Published: 4-Dec-2008; DatasheetVersion: Feb-2005; PackageVersion: revB, Jun-2003; PackageReference: LDC08A; Publisher: Altium Limited; PackageDescription: LLP, Plastic, Dual, 4 x 4 x 0.75mm Body, 8 Lead, 0.8mm Pitch; RoHS: N; PinCount: 8; ComponentLink1Description: LP2989 Datasheet; ComponentLink1URL: http://www.national.com/ds/LP/LP2989.pdf; ComponentLink2Description: LP2989 Web Page; ComponentLink2URL: http://www.national.com/pf/LP/LP2989.html; ComponentLink3Description: LDC08A Package Page; ComponentLink3URL: http://www.national.com/packaging/folders/ldc08a.html
footprint LDC08A (PSON, 8-Leads, Body 4x4mm, Pitch 0.8mm, NSC Recommended)
pins: 1 BYP, 2 NC, 3 GND (power), 4 IN (power), 5 OUT (power), 6 SNS (in), 7 ~{ERR} (oc), 8 ~{SD} (in), 9 DAP (power)

## LP2989ILD-3.3/NOPB
designator U?
Micropower/Low Noise, 500 mA Ultra Low-Dropout Regulator, 8-pin LLP, Pb-Free; PartNumber: LP2989ILD-3.3/NOPB; Manufacturer: National Semiconductor; PackageTopMarking: NS*UZXYTT*L01JA*B; PowerWise: N; CompType: LDO IC; Published: 1-Mar-2010; DatasheetVersion: Feb-2005; PackageVersion: revB, Jun-2003; PackageReference: LDC08A; Publisher: Altium Limited; PackageDescription: LLP, Plastic, Dual, 4 x 4 x 0.75mm Body, 8 Lead, 0.8mm Pitch; Supplier 1: Digi-Key; Supplier Part Number 1: LP2989ILD-3.3TR-ND; Supplier 2: Digi-Key; Supplier Part Number 2: LP2989ILD-3.3CT-ND; Supplier 3: Digi-Key; Supplier Part Number 3: LP2989ILD-3.3DKR-ND; RoHS: Y; PinCount: 8; ComponentLink1Description: LP2989 Datasheet; ComponentLink1URL: http://www.national.com/ds/LP/LP2989.pdf; ComponentLink2Description: LP2989 Web Page; ComponentLink2URL: http://www.national.com/pf/LP/LP2989.html; ComponentLink3Description: LDC08A Package Page; ComponentLink3URL: http://www.national.com/packaging/folders/ldc08a.html
footprint LDC08A (PSON, 8-Leads, Body 4x4mm, Pitch 0.8mm, NSC Recommended)
pins: 1 BYP, 2 NC, 3 GND (power), 4 IN (power), 5 OUT (power), 6 SNS (in), 7 ~{ERR} (oc), 8 ~{SD} (in), 9 DAP (power)